# EAGLE library part 0005_064R_1K_/_CAY16-102J4LF (library NanoV3.2)
1K 064R
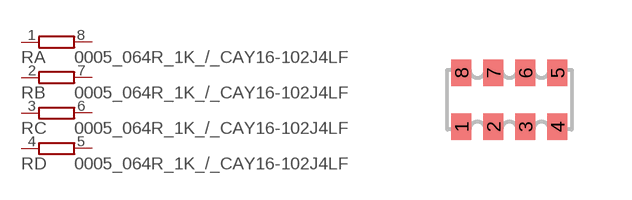
[diagram p5: symbol with the pads of CAY16; footprint CAY16]

Designator prefix R; gates A=R1NV B=R1NV C=R1NV D=R1NV

## 0005_064R_1K_/_CAY16-102J4LF (CASE: SMD_3,2x1,6; MONTHLY_USAGE: _____; PART_NUMBER: 064R_1K_/_CAY16-102J4LF; PRICE: _____; SUPPLIER: _____; TYPE: Resistenze; VALUE: 1K)  [CAY16]
1  A:1  pas
2  B:1  pas
3  C:1  pas
4  D:1  pas
5  D:2  pas
6  C:2  pas
7  B:2  pas
8  A:2  pas

## Footprint CAY16 (pad centres in mm)
BOURNS Chip Resistor Array Source: RS Component / BUORNS
smd 0.5 x 0.65: 1 -1.2,-0.675; 2 -0.4,-0.675; 3 0.4,-0.675; 4 1.2,-0.675; 5 1.2,0.675; 6 0.4,0.675; 7 -0.4,0.675; 8 -1.2,0.675